# Altium footprint library MH_0205H.PcbLib: 1 footprints
Each footprint in its own frame and in the unit in brackets; x right, y up, seen from the top. Pads: shape width x height; smd on the part's side, far side on the other; paste and mask are expansions set on the pad; w line width, h text height; cw(c..) or ccw(c..) is an arc to the next point about the centre after c.
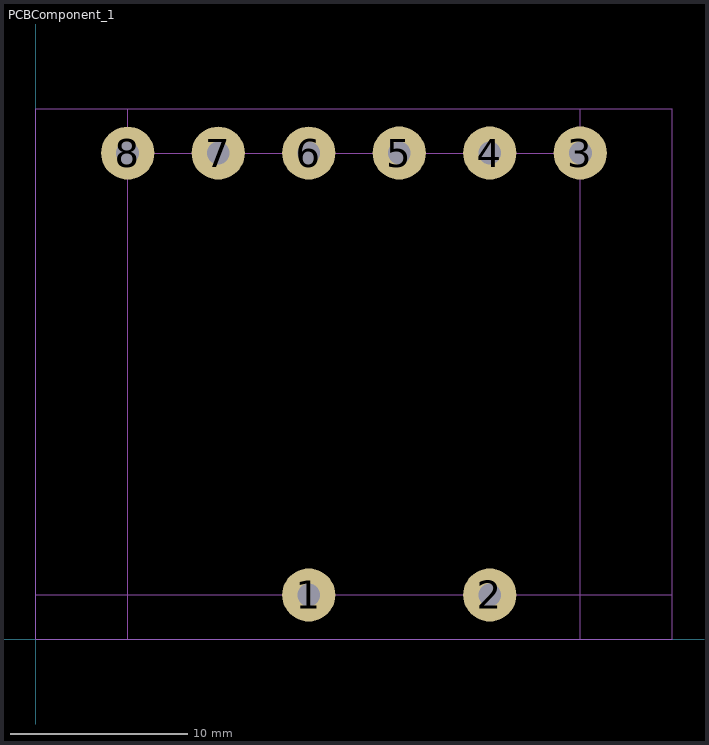
[diagram p0: the footprint, top view; thin cyan lines are the x and y axes]

## PCBComponent_1 [mm]
pads (8):
  round 3 hole 1.3: 1(15.44,2.5) 2(25.68,2.5) 3(30.8,27.5) 4(25.68,27.5) 5(20.56,27.5) 6(15.44,27.5) 7(10.32,27.5) 8(5.2,27.5)
Mechanical 1:
  lines w0.05: 0,2.5 36,2.5 ; 5.2,0 5.2,30 ; 5.2,27.5 30.8,27.5 ; 30.8,0 30.8,30
Mechanical 5:
  lines w0.05: 0,0 0,30 36,30 36,0 0,0